# Altium schematic symbol library Cap_Murata_GCQ1555C1H120FB01D_12pF.SchLib: 1 symbol
Pins are listed as number, name and electrical type; pins without a type are passive.

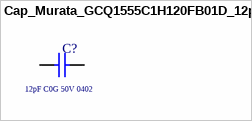
[diagram p0: symbol Cap_Murata_GCQ1555C1H120FB01D_12pF]

## Cap_Murata_GCQ1555C1H120FB01D_12pF
designator C?  Capacitance: 12pF C0G 50V 0402  (hidden comment: Cap_Murata_GCQ1555C1H120FB01D_12pF)
MLCC - SMD/SMT 0402 50VDC 12pF 1% AEC-Q200; Manufacturer 1: Murata; Supplier 1: Mouser; Supplier Part Number 1: 81-GCQ1555C1H120FB1D; Manufacturer Part Number 1: GCQ1555C1H120FB01D
footprint Cap_Murata_GCQ1555C1H120FB01D_12pF
pins: 1, 2